# Altium footprint library xcvu35.PcbLib: 25 footprints (part 1 of 4)
Each footprint in its own frame and in the unit in brackets; x right, y up, seen from the top. Pads: shape width x height; smd on the part's side, far side on the other; paste and mask are expansions set on the pad; w line width, h text height; cw(c..) or ccw(c..) is an arc to the next point about the centre after c.
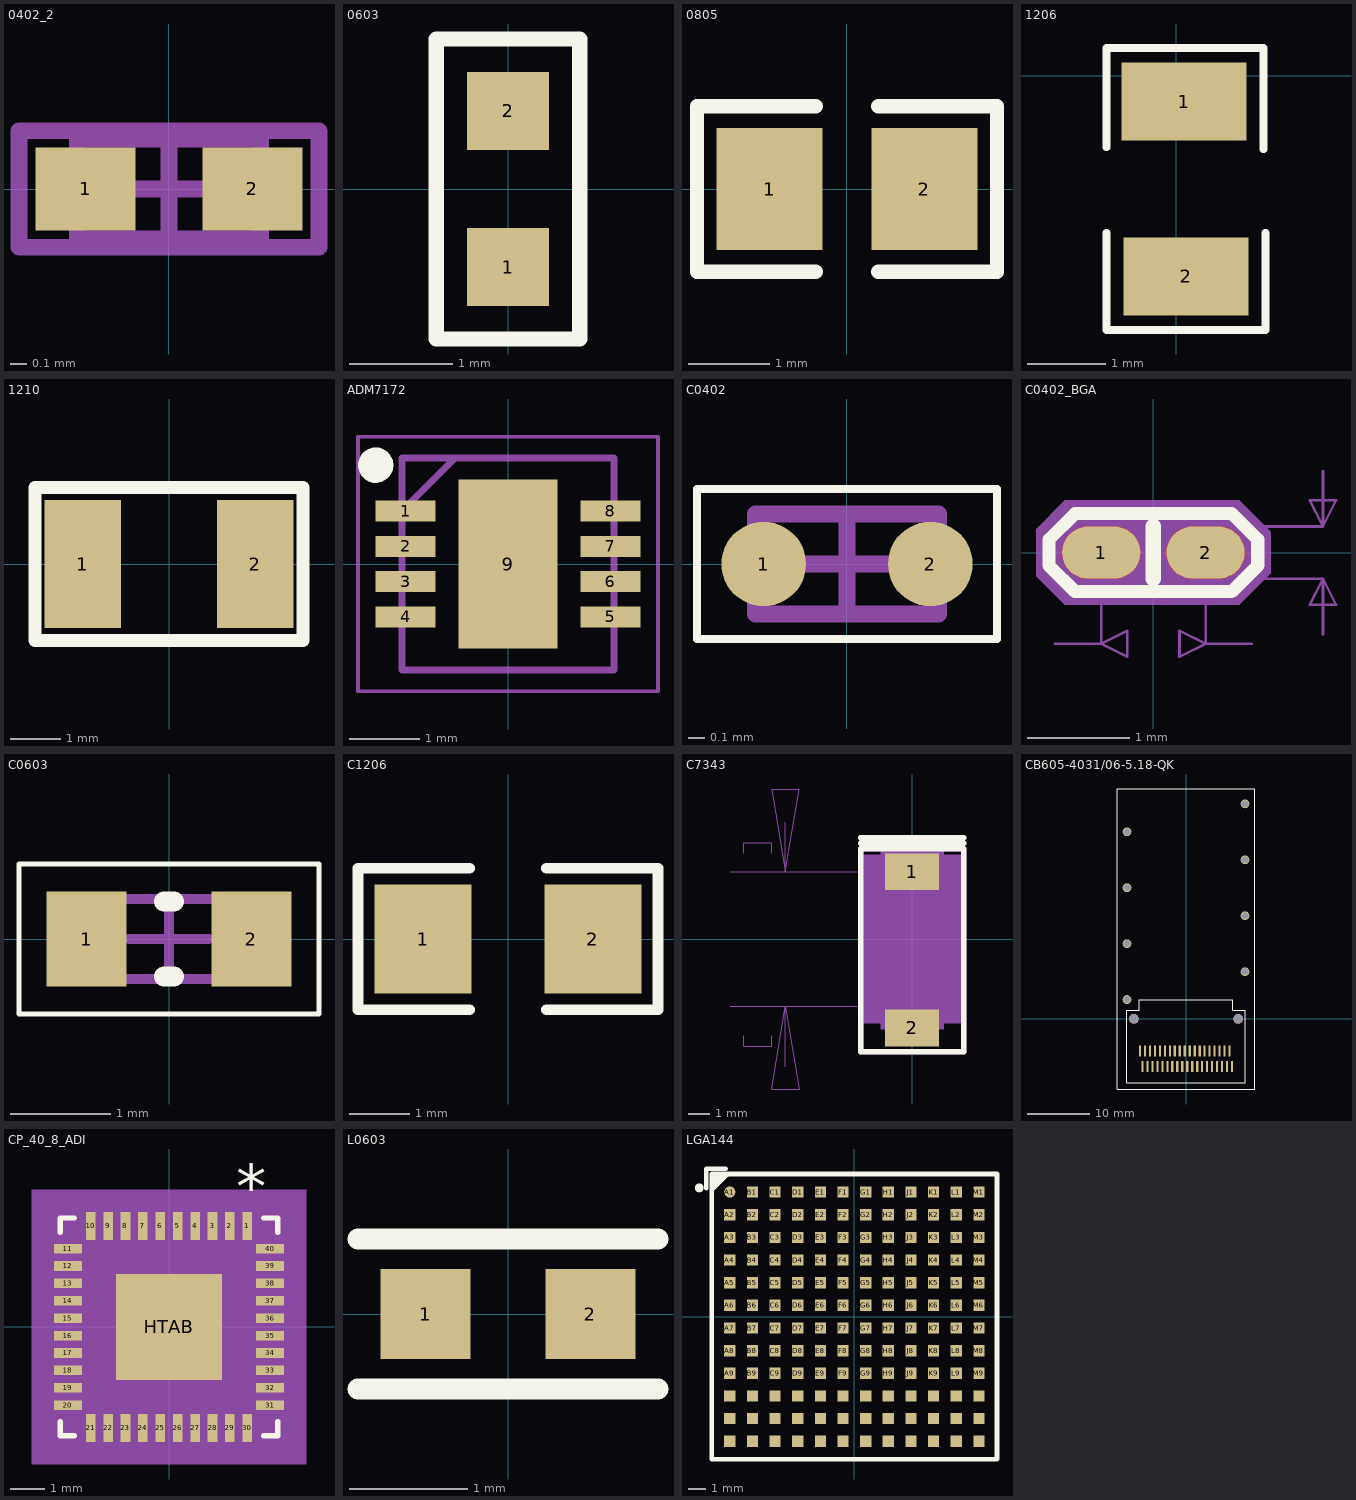
[diagram p0: the footprints below, top view; thin cyan lines are the x and y axes]

## 0402 [mil] "Chip Capacitor, Body 1.0x0.5mm, IPC High Density"
height 51.18

## 0402_2 [mm]
pads (2):
  rect 0.6x0.5 smd: 1(-0.5,0) 2(0.5,0)
Mechanical 13:
  lines w0.1: -0.55,-0.3 -0.55,0.3 0.55,0.3 0.55,-0.3 -0.55,-0.3
Mechanical 15:
  lines w0.1: -0.3,0 0.3,0 ; 0,-0.3 0,0.3 ; -0.9,-0.35 -0.9,0.35 0.9,0.35 0.9,-0.35 -0.9,-0.35
3D body: height 1.3, standoff 0, extent -0.55,-0.3 0.55,0.3

## 0603 [mm] "C0603"
pads (2):
  rect 0.8x0.76 smd: 1(0,-0.76) 2(0,0.76)
Top Overlay:
  lines w0.15: -0.7,-1.46 0.7,-1.46 0.7,1.46 -0.7,1.46 -0.7,-1.46
Mechanical 17:
  text ".Designator" at -1.905,1.397 h0.91

## 0805 [mm]
pads (2):
  rect 1.3x1.5 smd: 1(-0.95,0) 2(0.95,0)
Top Overlay:
  lines w0.178: -0.381,-1.019 -1.841,-1.019 -1.841,1.019 -0.381,1.019 ; 0.381,-1.019 1.842,-1.019 1.842,1.019 0.381,1.019

## 1206 [mil]
height 49.21
pads (2):
  rect 62.99x39.37 smd: 1(4,-13) 2(5,-101)
Top Overlay:
  lines w3.94: -35,-79 -35,-128 45,-128 45,-79 ; -35,-36 -35,14 44,14 44,-37

## 1210 [mil]
pads (2):
  rect 60x100 smd: 1(-67.5,0) 2(67.5,0)
Top Overlay:
  lines w10: -105,-60 -105,60 105,60 105,-60 -105,-60

## ADM7172 [mm]
pads (9):
  rect 0.85x0.3 smd: 1(-1.45,0.75) 2(-1.45,0.25) 3(-1.45,-0.25) 4(-1.45,-0.75) 5(1.45,-0.75) 6(1.45,-0.25) 7(1.45,0.25) 8(1.45,0.75)
  rect 1.4x2.4 smd: 9(0,0)
Top Overlay:
  circle w0.25: c-1.875,1.4 r0.125
Mechanical 13:
  lines w0.1: -1.5,0.75 -0.75,1.5 ; -1.5,-1.5 -1.5,1.5 1.5,1.5 1.5,-1.5 -1.5,-1.5
Mechanical 15:
  lines w0.05: -2.125,-1.8 -2.125,1.8 2.125,1.8 2.125,-1.8 -2.125,-1.8
3D body "ADM7172ACPZ-3.3-R7.stp": height 0.8, standoff 0, extent -1.55,-1.5 1.55,1.5

## C0402 [mil]
height 11.81
pads (2):
  round 20 smd: 1(-19.68,0) 2(19.68,0)
Top Overlay:
  lines w1.97: -35.43,-17.72 -35.43,17.72 35.43,17.72 35.43,-17.72 -35.43,-17.72
Mechanical 13:
  lines w3.94: -21.65,-11.81 21.65,-11.81 21.65,11.81 -21.65,11.81 -21.65,-11.81
Mechanical 15:
  lines w1.97: -35.43,-17.72 -35.43,17.72 35.43,17.72 35.43,-17.72 -35.43,-17.72
  lines w3.94: -9.84,0 9.84,0 ; 0,-9.84 0,9.84
3D body "C 0402.STEP": height 20.68, standoff 0.21, extent -19.68,-10.23 19.69,10.24

## C0402_BGA [mil] "C0402_BGA"
pads (2):
  oval 30x20 smd: 1(-20,0) 2(20,0)
Top Layer:
  region: 25.7,10 26.5,9.9 27.5,9.7 28.7,9.3 30,8.7 30.9,8.1 31.7,7.5 32.4,6.8 33.1,5.9 33.6,5.2 34.2,4 34.4,3.4 34.45,3.33 34.47,3.29 34.6,2.9 34.9,1.6 35,0.3 35,-0.2 34.98,-0.9 34.8,-2.1 34.6,-2.9 34.39,-3.42 34.3,-3.7 33.8,-4.8 33.1,-5.9 32.3,-6.9 31.78,-7.38 31.6,-7.54 31.3,-7.8 30.6,-8.3 29.4,-9 28.2,-9.5 27.1,-9.8 25.7,-10 14,-10 12.9,-9.8 12.1,-9.6 10.8,-9.1 9.7,-8.5 8.3,-7.5 8.17,-7.3 7.5,-6.7 6.8,-5.8 6.2,-4.8 5.57,-3.37 5.5,-3.2 5.4,-2.8 5.2,-2.1 5.1,-1.6 5,-0.8 5,0.8 5.2,2.1 5.48,3.22 5.61,3.42 5.8,4 6,4.4 6.5,5.3 7.1,6.2 7.8,7 8.18,7.31 8.21,7.36 8.51,7.59 9,8 9.4,8.3 10,8.7 10.8,9.1 11.6,9.4 12.2,9.6 13,9.8 13.5,9.9 14.6,10
  region: -14.3,10 -13.5,9.9 -12.5,9.7 -11.3,9.3 -10,8.7 -9.1,8.1 -8.3,7.5 -7.6,6.8 -6.9,5.9 -6.4,5.2 -5.8,4 -5.6,3.4 -5.55,3.33 -5.53,3.29 -5.4,2.9 -5.1,1.6 -5,0.3 -5,-0.2 -5.02,-0.9 -5.2,-2.1 -5.4,-2.9 -5.61,-3.42 -5.7,-3.7 -6.2,-4.8 -6.9,-5.9 -7.7,-6.9 -8.22,-7.38 -8.4,-7.54 -8.7,-7.8 -9.4,-8.3 -10.6,-9 -11.8,-9.5 -12.9,-9.8 -14.3,-10 -26,-10 -27.1,-9.8 -27.9,-9.6 -29.2,-9.1 -30.3,-8.5 -31.7,-7.5 -31.83,-7.3 -32.5,-6.7 -33.2,-5.8 -33.8,-4.8 -34.43,-3.37 -34.5,-3.2 -34.6,-2.8 -34.8,-2.1 -34.9,-1.6 -35,-0.8 -35,0.8 -34.8,2.1 -34.52,3.22 -34.39,3.42 -34.2,4 -34,4.4 -33.5,5.3 -32.9,6.2 -32.2,7 -31.82,7.31 -31.79,7.36 -31.49,7.59 -31,8 -30.6,8.3 -30,8.7 -29.2,9.1 -28.4,9.4 -27.8,9.6 -27,9.8 -26.5,9.9 -25.4,10
Top Overlay:
  lines w5: -40,-5 -30,-15 30,-15 40,-5 40,5 30,15 -30,15 -40,5 -40,-5
  lines w6: 0,-10 0,10
Mechanical 5:
  lines w5: -37.5,-7.51 -40,-5 -40,5 -37.5,7.51 ; -32.5,-12.49 -30,-15 30,-15 32.5,-12.49 ; -32.5,12.49 -30,15 30,15 32.5,12.49 ; 37.5,-7.51 40,-5 40,5 37.5,7.51
  lines w6: 0,-10 0,10
  text "C156" at 150,20 h25
  text "11_C_0_C0402_BGA_DISCRETE_0.1UF" at -200,50 h50
Mechanical 13:
  lines w1: -37.75,-35 -20,-35 ; -20,0 -20,-35 ; 20,-10 65,-10 ; 20,0 20,-35 ; 20,10 65,10 ; 37.75,-35 20,-35 ; 65,-31.25 65,-10 ; 65,31.25 65,10 ; -20,-35 -10,-30 -10,-40 -20,-35 ; 20,-35 10,-40 10,-30 20,-35 ; 65,-10 70,-20 60,-20 65,-10 ; 65,10 60,20 70,20 65,10
  text "20" at 46,-12.5 h25
  text "40" at -19,-47.5 h25
Mechanical 14:
  text "1" at -20,-10 h25
  text "2" at 20,-10 h25
Mechanical 16:
  pour cut-out: -34,-20 33,-20 45,-8 45,8 33,20 -34,20 -45,9 -45,-9
  region: 29,-12 36,-5 36,12 -29,12 -37,4 -37,-4 -29,-12
  lines w1: -20,-10 20,-10 20,10 -20,10 -20,-10
  lines w5: -40,-5 -30,-15 30,-15 40,-5 40,5 30,15 -30,15 -40,5 -40,-5
  lines w6: 0,-10 0,10
Mechanical 17:
  text "0.1uF" at -25,-70 h25
  text ".Designator" at 75.5,16.67 h50
3D body: height 150, standoff 0, extent -37,-12 36,12

## C0603 [mm]
height 1.2
pads (2):
  rect 0.8x0.95 smd: 1(-0.825,0) 2(0.825,0)
Top Overlay:
  lines w0.05: -1.5,-0.75 1.5,-0.75 1.5,0.75 -1.5,0.75 -1.5,-0.75
  lines w0.2: -0.05,-0.375 0.05,-0.375 ; -0.05,0.375 0.05,0.375
Mechanical 13:
  lines w0.1: -0.8,-0.4 0.8,-0.4 0.8,0.4 -0.8,0.4 -0.8,-0.4
Mechanical 15:
  lines w0.1: -0.4,0 0.4,0 ; 0,-0.4 0,0.4
3D body "C 0603.STEP": height 0.81, standoff -0.01, extent -0.8,-0.41 0.8,0.41

## C1206 [mm]
pads (2):
  rect 1.6x1.8 smd: 1(-1.4,0) 2(1.4,0)
Top Overlay:
  lines w0.178: -0.635,-1.168 -2.476,-1.168 -2.476,1.168 -0.635,1.168 ; 0.635,-1.168 2.476,-1.168 2.476,1.168 0.635,1.168
3D body "C 1206.STEP": height 1.21, standoff -0.01, extent -1.6,-0.81 1.6,0.81

## C7343 [mil] "C7343"
pads (2):
  rect 98x67 smd: 1(0,121.98) 2(0,-161.35)
Top Overlay:
  lines w9.84: -93.58,-163.48 -93.58,-204.06 93.58,-204.06 93.58,-163.48
  lines w10: -93.58,-163.48 -93.58,163.48 ; -93.58,173.48 93.58,173.48 ; -93.58,183.48 93.58,183.48 ; 93.58,-163.48 93.58,163.48 ; -93.58,163.48 93.58,163.48 ; -93.58,163.48 93.58,163.48
Mechanical 5:
  lines w9.84: -93.58,-163.48 -93.58,-204.06 93.58,-204.06 93.58,-163.48
  lines w10: -93.58,-163.48 -93.58,163.48 ; -93.58,173.48 93.58,173.48 ; -93.58,183.48 93.58,183.48 ; 93.58,-163.48 93.58,163.48 ; -93.58,163.48 93.58,163.48 ; -93.58,163.48 93.58,163.48
  text "CT1" at -30,209.48 h25
Mechanical 13:
  lines w1: -330,-121.98 -100,-121.98 ; -330,121.98 -100,121.98 ; -305,-175.5 -305,-194.5 -255,-194.5 -255,-175.5 ; -305,155.5 -305,174.5 -255,174.5 -255,155.5 ; -230,-232 -230,-121.98 ; -230,212 -230,121.98 ; -230,-121.98 -255,-271.98 -205,-271.98 -230,-121.98 ; -230,121.98 -205,271.98 -255,271.98 -230,121.98
  text "6.2" at -205,60 h25
  text "243.97" at -305,136.5 h25
Mechanical 14:
  text "2" at -10,-161.35 h25
  text "1" at -10,121.98 h25
Mechanical 16:
  region: -88.58,147.64 -88.58,-147.64 88.58,-147.64 88.58,147.64
  pour cut-out: 57,163.48 57,152.64 93.58,152.64 93.58,-152.64 57,-152.64 57,-163.48 -57,-163.48 -57,-152.64 -93.58,-152.64 -93.58,152.64 -57,152.64 -57,163.48
  lines w1: -88.58,-147.64 88.58,-147.64 88.58,147.64 -88.58,147.64 -88.58,-147.64
Mechanical 17:
  text ".Designator" at -30,-16.67 h25
3D body: height 150, standoff 0, extent -88.58,-147.64 88.58,147.64

## CB605-4031/06-5.18-QK [mm]
pads (48):
  rect 0.35x1.8 smd: 1(7,-5.18) 2(6.2,-5.18) 3(5.4,-5.18) 4(4.6,-5.18) 5(3.8,-5.18) 6(3,-5.18) 7(2.2,-5.18) 8(1.4,-5.18) 9(0.6,-5.18) 10(-0.2,-5.18) 11(-1,-5.18) 12(-1.8,-5.18) 13(-2.6,-5.18) 14(-3.4,-5.18) 15(-4.2,-5.18) 16(-5,-5.18) 17(-5.8,-5.18) 18(-6.6,-5.18) 19(-7.4,-5.18) 20(-7,-7.69) 21(-6.2,-7.69) 22(-5.4,-7.69) 23(-4.6,-7.69) 24(-3.8,-7.69) 25(-3,-7.69) 26(-2.2,-7.69) 27(-1.4,-7.69) 28(-0.6,-7.69) 29(0.2,-7.69) 30(1,-7.69) 31(1.8,-7.69) 32(2.6,-7.69) 33(3.4,-7.69) 34(4.2,-7.69) 35(5,-7.69) 36(5.8,-7.69) 37(6.6,-7.69) 38(7.4,-7.69)
  round 1.4 hole 1.1: 39(-9.5,3.1) 39(-9.5,12.1) 39(-9.5,21.1) 39(-9.5,30.1) 39(9.5,7.6) 39(9.5,16.6) 39(9.5,25.6) 39(9.5,34.6)
  round 1.55 hole 1.55: ""(-8.4,0) ""(8.4,0)
Top Overlay:
  lines w0.1: -11.075,-11.3 11.075,-11.3 11.075,37 -11.075,37 -11.075,-11.3 ; -9.5,-10.3 9.5,-10.3 9.5,1.36 7.51,1.36 7.51,3.05 -7.51,3.05 -7.51,1.36 -9.5,1.36 -9.5,-10.3

## CP_40_8_ADI [mm]
pads (41):
  rect 0.275x0.805 smd paste+0 mask+0: 1(2.25,2.902) 2(1.75,2.902) 3(1.25,2.902) 4(0.75,2.902) 5(0.25,2.902) 6(-0.25,2.902) 7(-0.75,2.902) 8(-1.25,2.902) 9(-1.75,2.902) 10(-2.25,2.902) 21(-2.25,-2.902) 22(-1.75,-2.902) 23(-1.25,-2.902) 24(-0.75,-2.902) 25(-0.25,-2.902) 26(0.25,-2.902) 27(0.75,-2.902) 28(1.25,-2.902) 29(1.75,-2.902) 30(2.25,-2.902)
  rect 0.805x0.275 smd paste+0 mask+0: 11(-2.902,2.25) 12(-2.902,1.75) 13(-2.902,1.25) 14(-2.902,0.75) 15(-2.902,0.25) 16(-2.902,-0.25) 17(-2.902,-0.75) 18(-2.902,-1.25) 19(-2.902,-1.75) 20(-2.902,-2.25) 31(2.902,-2.25) 32(2.902,-1.75) 33(2.902,-1.25) 34(2.902,-0.75) 35(2.902,-0.25) 36(2.902,0.25) 37(2.902,0.75) 38(2.902,1.25) 39(2.902,1.75) 40(2.902,2.25)
  rect 3.05x3.05 smd paste+0 mask+0: HTAB(0,0)
Top Overlay:
  lines w0.152: -3.127,-2.72 -3.127,-3.127 -2.72,-3.127 ; -3.127,2.72 -3.127,3.127 -2.72,3.127 ; 2.72,-3.127 3.127,-3.127 3.127,-2.72 ; 2.72,3.127 3.127,3.127 3.127,2.72
  text "*" at 1.933,3.41 h1.27
Top Paste:
  region: 1.425,-0.1 0.1,-0.1 0.1,-1.425 1.425,-1.425
  region: 1.425,1.425 0.1,1.425 0.1,0.1 1.425,0.1
  region: -0.1,-0.1 -1.425,-0.1 -1.425,-1.425 -0.1,-1.425
  region: -0.1,1.425 -1.425,1.425 -1.425,0.1 -0.1,0.1
Mechanical 5:
  region: 3.94,-3.94 -3.94,-3.94 -3.94,3.94 3.94,3.94
Mechanical 13:
  lines w0.025: -3,-2.4 -3,-2.1 -3,-2.4 ; -3,-2.4 -2.4,-3 ; -3,2.4 -3,2.1 -3,2.4 ; -3,2.4 -2.4,3 ; -2.4,-3 -2.1,-3 -2.4,-3 ; -2.4,3 -2.1,3 -2.4,3 ; 2.4,-3 2.1,-3 2.4,-3 ; 2.4,-3 3,-2.4 ; 2.4,3 2.1,3 2.4,3 ; 2.4,3 3,2.4 ; 3,-2.4 3,-2.1 3,-2.4 ; 3,2.4 3,2.1 3,2.4 ; -3,-3 -3,3 3,3 3,-3 -3,-3 ; -3,-1.9 -3,-1.6 -3,-1.9 ; -3,-1.4 -3,-1.1 -3,-1.4 ; -3,-0.9 -3,-0.6 -3,-0.9 ; -3,-0.4 -3,-0.1 -3,-0.4 ; -3,0.1 -3,0.4 -3,0.1 ; -3,0.6 -3,0.9 -3,0.6 ; -3,1.1 -3,1.4 -3,1.1 ; -3,1.6 -3,1.9 -3,1.6 ; -1.9,-3 -1.6,-3 -1.9,-3 ; -1.9,3 -1.6,3 -1.9,3 ; -1.4,-3 -1.1,-3 -1.4,-3 ; -1.4,3 -1.1,3 -1.4,3 ; -0.9,-3 -0.6,-3 -0.9,-3 ; -0.9,3 -0.6,3 -0.9,3 ; -0.4,-3 -0.1,-3 -0.4,-3 ; -0.4,3 -0.1,3 -0.4,3 ; 0.1,-3 0.4,-3 0.1,-3 ; 0.1,3 0.4,3 0.1,3 ; 0.6,-3 0.9,-3 0.6,-3 ; 0.6,3 0.9,3 0.6,3 ; 1.1,-3 1.4,-3 1.1,-3 ; 1.1,3 1.4,3 1.1,3 ; 1.6,-3 1.9,-3 1.6,-3 ; 1.6,3 1.9,3 1.6,3 ; 3,-1.9 3,-1.6 3,-1.9 ; 3,-1.4 3,-1.1 3,-1.4 ; 3,-0.9 3,-0.6 3,-0.9 ; 3,-0.4 3,-0.1 3,-0.4 ; 3,0.1 3,0.4 3,0.1 ; 3,0.6 3,0.9 3,0.6 ; 3,1.1 3,1.4 3,1.1 ; 3,1.6 3,1.9 3,1.6
  text "*" at 2.091,2.433 h0.64
Mechanical 15:
  region: -2.641,-3.254 -3.254,-3.254 -3.254,-2.641 -3.559,-2.641 -3.559,2.641 -3.254,2.641 -3.254,3.254 -2.641,3.254 -2.641,3.559 2.641,3.559 2.641,3.254 3.254,3.254 3.254,2.641 3.559,2.641 3.559,-2.641 3.254,-2.641 3.254,-3.254 2.641,-3.254 2.641,-3.559 -2.641,-3.559
  lines w0.152: -3.559,-2.641 -3.559,2.641 -3.254,2.641 -3.254,3.254 -2.641,3.254 -2.641,3.559 2.641,3.559 2.641,3.254 3.254,3.254 3.254,2.641 3.559,2.641 3.559,-2.641 3.254,-2.641 3.254,-3.254 2.641,-3.254 2.641,-3.559 -2.641,-3.559 -2.641,-3.254 -3.254,-3.254 -3.254,-2.641 -3.559,-2.641
3D body "CP_40_8_ADI.step": height 1, standoff 0, extent -3,-3 3,3

## L0603 [mil]
pads (2):
  rect 30x30 smd: 1(-27.5,0) 2(27.5,0)
Top Overlay:
  lines w7: -50,-25 50,-25 ; -50,25 50,25

## LGA144 [mm] "LTM4630"
pads (144):
  round 0.63 smd: A1(-6.985,6.985)
  rect 0.63x0.63 smd: A2(-6.985,5.715) A3(-6.985,4.445) A4(-6.985,3.175) A5(-6.985,1.905) A6(-6.985,0.635) A7(-6.985,-0.635) A8(-6.985,-1.905) A9(-6.985,-3.175) A10(-6.985,-4.445) A11(-6.985,-5.715) A12(-6.985,-6.985) B1(-5.715,6.985) B2(-5.715,5.715) B3(-5.715,4.445) B4(-5.715,3.175) B5(-5.715,1.905) B6(-5.715,0.635) B7(-5.715,-0.635) B8(-5.715,-1.905) B9(-5.715,-3.175) B10(-5.715,-4.445) B11(-5.715,-5.715) B12(-5.715,-6.985) C1(-4.445,6.985) C2(-4.445,5.715) C3(-4.445,4.445) C4(-4.445,3.175) C5(-4.445,1.905) C6(-4.445,0.635) C7(-4.445,-0.635) C8(-4.445,-1.905) C9(-4.445,-3.175) C10(-4.445,-4.445) C11(-4.445,-5.715) C12(-4.445,-6.985) D1(-3.175,6.985) D2(-3.175,5.715) D3(-3.175,4.445) D4(-3.175,3.175) D5(-3.175,1.905) D6(-3.175,0.635) D7(-3.175,-0.635) D8(-3.175,-1.905) D9(-3.175,-3.175) D10(-3.175,-4.445) D11(-3.175,-5.715) D12(-3.175,-6.985) E1(-1.905,6.985) E2(-1.905,5.715) E3(-1.905,4.445) E4(-1.905,3.175) E5(-1.905,1.905) E6(-1.905,0.635) E7(-1.905,-0.635) E8(-1.905,-1.905) E9(-1.905,-3.175) E10(-1.905,-4.445) E11(-1.905,-5.715) E12(-1.905,-6.985) F1(-0.635,6.985) F2(-0.635,5.715) F3(-0.635,4.445) F4(-0.635,3.175) F5(-0.635,1.905) F6(-0.635,0.635) F7(-0.635,-0.635) F8(-0.635,-1.905) F9(-0.635,-3.175) F10(-0.635,-4.445) F11(-0.635,-5.715) F12(-0.635,-6.985) G1(0.635,6.985) G2(0.635,5.715) G3(0.635,4.445) G4(0.635,3.175) G5(0.635,1.905) G6(0.635,0.635) G7(0.635,-0.635) G8(0.635,-1.905) G9(0.635,-3.175) G10(0.635,-4.445) G11(0.635,-5.715) G12(0.635,-6.985) H1(1.905,6.985) H2(1.905,5.715) H3(1.905,4.445) H4(1.905,3.175) H5(1.905,1.905) H6(1.905,0.635) H7(1.905,-0.635) H8(1.905,-1.905) H9(1.905,-3.175) H10(1.905,-4.445) H11(1.905,-5.715) H12(1.905,-6.985) J1(3.175,6.985) J2(3.175,5.715) J3(3.175,4.445) J4(3.175,3.175) J5(3.175,1.905) J6(3.175,0.635) J7(3.175,-0.635) J8(3.175,-1.905) J9(3.175,-3.175) J10(3.175,-4.445) J11(3.175,-5.715) J12(3.175,-6.985) K1(4.445,6.985) K2(4.445,5.715) K3(4.445,4.445) K4(4.445,3.175) K5(4.445,1.905) K6(4.445,0.635) K7(4.445,-0.635) K8(4.445,-1.905) K9(4.445,-3.175) K10(4.445,-4.445) K11(4.445,-5.715) K12(4.445,-6.985) L1(5.715,6.985) L2(5.715,5.715) L3(5.715,4.445) L4(5.715,3.175) L5(5.715,1.905) L6(5.715,0.635) L7(5.715,-0.635) L8(5.715,-1.905) L9(5.715,-3.175) L10(5.715,-4.445) L11(5.715,-5.715) L12(5.715,-6.985) M1(6.985,6.985) M2(6.985,5.715) M3(6.985,4.445) M4(6.985,3.175) M5(6.985,1.905) M6(6.985,0.635) M7(6.985,-0.635) M8(6.985,-1.905) M9(6.985,-3.175) M10(6.985,-4.445) M11(6.985,-5.715) M12(6.985,-6.985)
Top Overlay:
  lines w0.249: -8.7,7.1 cw(c-8.699,7.225) -8.697,7.1
  lines w0.254: -8.3,7.2 -8.3,8.3 -7.2,8.3 ; -8,7.1 -7.165,7.935 -7.165,8 ; -8,7.401 -7.401,8 -7.33,8 ; -8,7.6 -7.699,7.901 -7.699,8 ; -8,-8 -8,8 8,8 8,-8 -8,-8